# Altium integrated library MAX3232IDWR.IntLib: 1 symbol
Pins are listed as number, name and electrical type; pins without a type are passive.

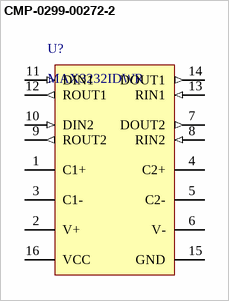
[diagram p0: symbol CMP-0299-00272-2]

## CMP-0299-00272-2
designator U?, comment MAX3232IDWR
3-V to 5.5-V Multichannel RS-232 Line Driver / Receiver with ±15-kV ESD Protection, -40 to 85 degC, 16-Pin SOIC (DW), Green (RoHS & no Sb/Br); Receivers Per Package: 2; ESD HBM(kV): +/-15; RS-232: TRUE; ICC(Max)(mA): 1; Supply Voltage(s)(V): 3.3 or 5.0; ComponentLink3URL: http://www.ti.com/litv/pdf/msoi003g; ComponentLink2Description: Datasheet; PackageVersion: revG, Jan-2011; PackageReference: DW0016A; ComponentLink1Description: Manufacturer URL; ComponentLink1URL: www.ti.com; ComponentLink3Description: Package Specification; Drivers Per Package: 2; SubFamily: RS-232; DatasheetVersion: SLLS410I; Single Supply: TRUE; ComponentLink2URL: http://www.ti.com/general/docs/lit/getliterature.tsp?genericPartNumber=MAX3232&fileType=pdf; PackageDescription: 16-Pin Small Outline Integrated Circuit, 10.3 x 7.5 mm, Pitch 1.27 mm Pitch
footprint DW0016A_N (SOIC, 16-Leads, Body 10.5x7.6mm, Pitch 1.27mm, IPC Medium Density)
footprint DW0016A_L (SOIC, 16-Leads, Body 10.5x7.6mm, Pitch 1.27mm, IPC High Density)
footprint DW0016A_M (SOIC, 16-Leads, Body 10.5x7.6mm, Pitch 1.27mm, IPC Low Density)
pins: 1 C1+, 2 V+ (power), 3 C1-, 4 C2+, 5 C2-, 6 V- (power), 7 DOUT2 (out), 8 RIN2 (in), 9 ROUT2 (out), 10 DIN2 (in), 11 DIN1 (in), 12 ROUT1 (out), 13 RIN1 (in), 14 DOUT1 (out), 15 GND (power), 16 VCC (power)